# Altium integrated library Microchip Power Mgt CPU-System Supervisors.IntLib: 389 symbols (part 7 of 9)
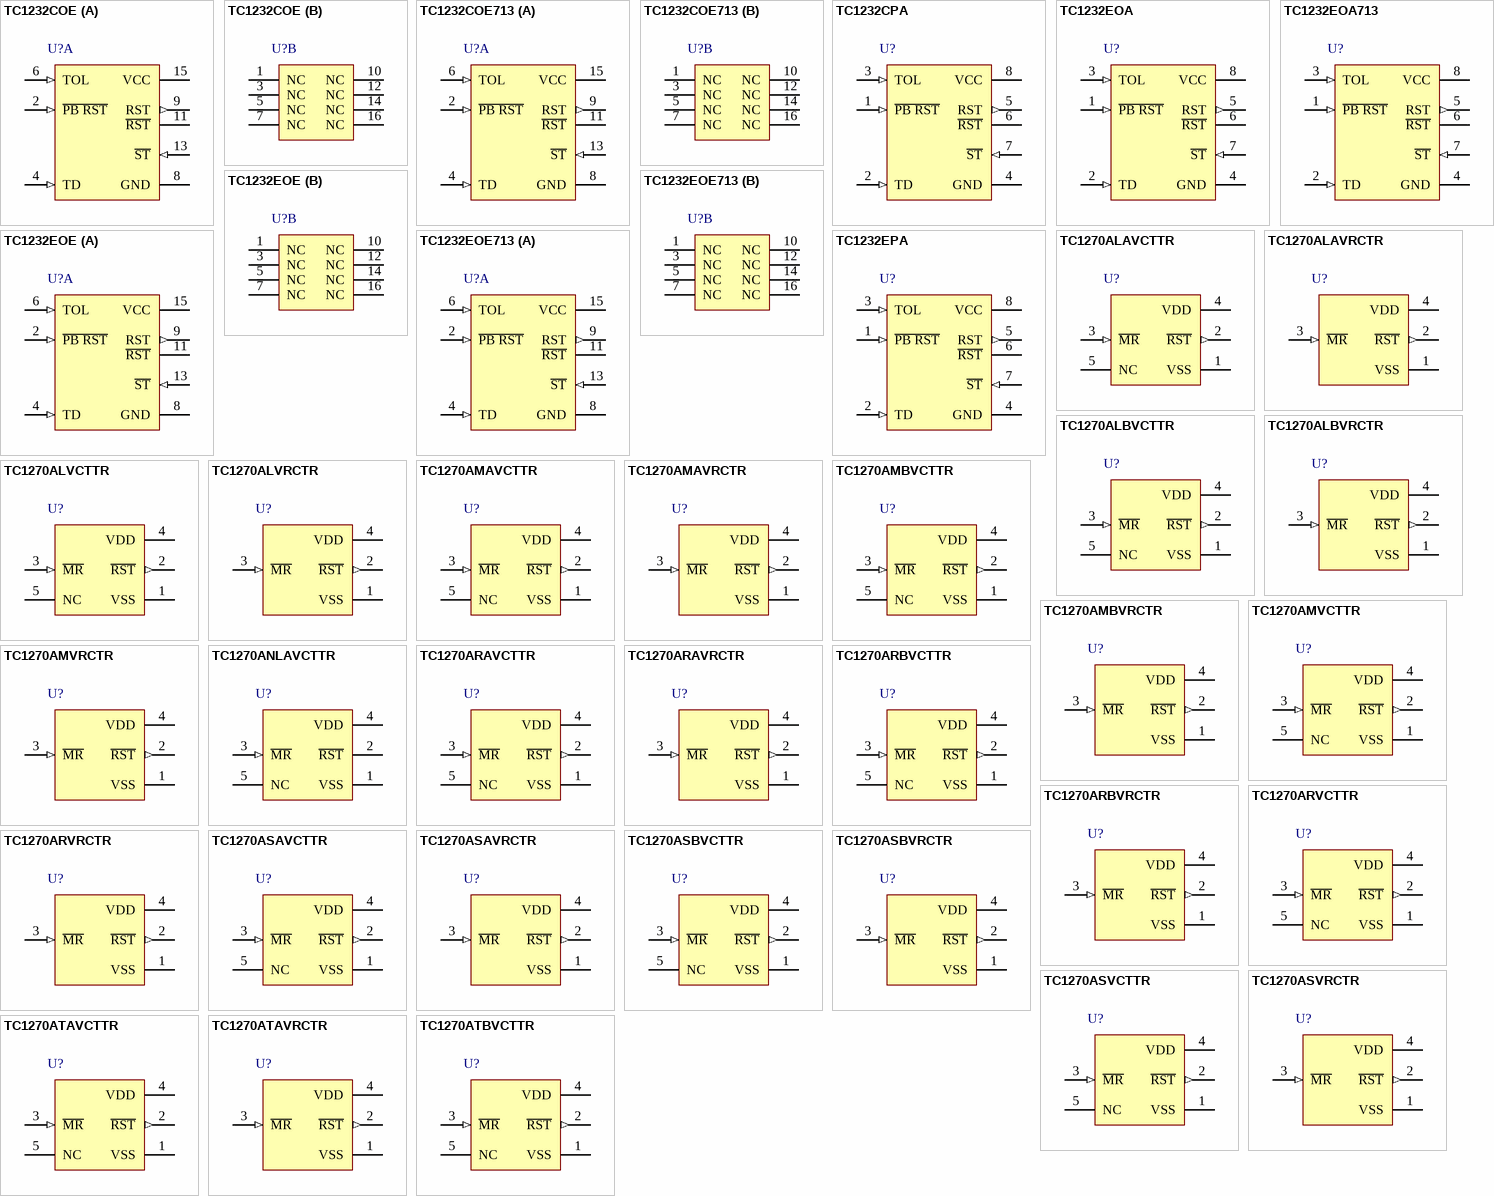
[diagram p15: symbols TC1232COE to TC1270ATBVCTTR]

## TC1270AMAVRCTR
designator U?
Voltage Supervisor with Manual Reset Input, 4-Pin SOT-143, VTRIP:4.25V (min.) / 4.38V (typ.) / 4.50V (max.), Tape and Reel; Published: 29-Jan-2009; DatasheetVersion: revB, Jun-2007; PackageVersion: revAW, Oct-2008; PackageReference: SOT-143-RC4; Publisher: Altium Limited; PackageDescription: 4-Lead Plastic Small Outline Transistor (RC) [SOT-143]; Code_IPC: SOT143; ComponentLink1Description: Manufacturer Link; ComponentLink1URL: http://www.microchip.com; ComponentLink2Description: Datasheet; ComponentLink2URL: http://ww1.microchip.com/downloads/en/DeviceDoc/22035b.pdf; ComponentLink3Description: Packaging Specification; ComponentLink3URL: http://ww1.microchip.com/downloads/en/PackagingSpec/00049AW.pdf
footprint SOT-143-RC4_N (SOT143, 4-Leads, Body 2.9x1.3mm, Pitch 1.9mm, Lead Span 2.4mm, IPC Medium Density)
footprint SOT-143-RC4_L (SOT143, 4-Leads, Body 2.9x1.3mm, Pitch 1.9mm, Lead Span 2.4mm, IPC High Density)
footprint SOT-143-RC4_M (SOT143, 4-Leads, Body 2.9x1.3mm, Pitch 1.9mm, Lead Span 2.4mm, IPC Low Density)
pins: 1 VSS (power), 2 ~{RST} (out), 3 ~{MR} (in), 4 VDD (power)

## TC1270AMBVCTTR
designator U?
Voltage Supervisor with Manual Reset Input, 5-Pin SOT-23, VTRIP:4.25V (min.) / 4.38V (typ.) / 4.50V (max.), Tape and Reel; Published: 29-Jan-2009; DatasheetVersion: revB, Jun-2007; PackageVersion: revAW, Oct-2008; PackageReference: SOT-23-CT5; Publisher: Altium Limited; PackageDescription: 5-Lead Plastic Small Outline Transistor (CT) [SOT-23]; Code_IPC: SOT23-5; ComponentLink1Description: Manufacturer Link; ComponentLink1URL: http://www.microchip.com; ComponentLink2Description: Datasheet; ComponentLink2URL: http://ww1.microchip.com/downloads/en/DeviceDoc/22035b.pdf; ComponentLink3Description: Packaging Specification; ComponentLink3URL: http://ww1.microchip.com/downloads/en/PackagingSpec/00049AW.pdf
footprint SOT-23-CT5_N (SOT23, 5-Leads, Body 2.9x1.6mm, Pitch 0.95mm, Lead Span 2.7mm, IPC Medium Density)
footprint SOT-23-CT5_L (SOT23, 5-Leads, Body 2.9x1.6mm, Pitch 0.95mm, Lead Span 2.7mm, IPC High Density)
footprint SOT-23-CT5_M (SOT23, 5-Leads, Body 2.9x1.6mm, Pitch 0.95mm, Lead Span 2.7mm, IPC Low Density)
pins: 1 VSS (power), 2 ~{RST} (out), 3 ~{MR} (in), 4 VDD (power), 5 NC

## TC1270AMBVRCTR
designator U?
Voltage Supervisor with Manual Reset Input, 4-Pin SOT-143, VTRIP:4.25V (min.) / 4.38V (typ.) / 4.50V (max.), Tape and Reel; Published: 29-Jan-2009; DatasheetVersion: revB, Jun-2007; PackageVersion: revAW, Oct-2008; PackageReference: SOT-143-RC4; Publisher: Altium Limited; PackageDescription: 4-Lead Plastic Small Outline Transistor (RC) [SOT-143]; Code_IPC: SOT143; ComponentLink1Description: Manufacturer Link; ComponentLink1URL: http://www.microchip.com; ComponentLink2Description: Datasheet; ComponentLink2URL: http://ww1.microchip.com/downloads/en/DeviceDoc/22035b.pdf; ComponentLink3Description: Packaging Specification; ComponentLink3URL: http://ww1.microchip.com/downloads/en/PackagingSpec/00049AW.pdf
footprint SOT-143-RC4_N (SOT143, 4-Leads, Body 2.9x1.3mm, Pitch 1.9mm, Lead Span 2.4mm, IPC Medium Density)
footprint SOT-143-RC4_L (SOT143, 4-Leads, Body 2.9x1.3mm, Pitch 1.9mm, Lead Span 2.4mm, IPC High Density)
footprint SOT-143-RC4_M (SOT143, 4-Leads, Body 2.9x1.3mm, Pitch 1.9mm, Lead Span 2.4mm, IPC Low Density)
pins: 1 VSS (power), 2 ~{RST} (out), 3 ~{MR} (in), 4 VDD (power)

## TC1270AMVCTTR
designator U?
Voltage Supervisor with Manual Reset Input, 5-Pin SOT-23, VTRIP:4.25V (min.) / 4.38V (typ.) / 4.50V (max.), Tape and Reel; Published: 29-Jan-2009; DatasheetVersion: revB, Jun-2007; PackageVersion: revAW, Oct-2008; PackageReference: SOT-23-CT5; Publisher: Altium Limited; PackageDescription: 5-Lead Plastic Small Outline Transistor (CT) [SOT-23]; Code_IPC: SOT23-5; ComponentLink1Description: Manufacturer Link; ComponentLink1URL: http://www.microchip.com; ComponentLink2Description: Datasheet; ComponentLink2URL: http://ww1.microchip.com/downloads/en/DeviceDoc/22035b.pdf; ComponentLink3Description: Packaging Specification; ComponentLink3URL: http://ww1.microchip.com/downloads/en/PackagingSpec/00049AW.pdf
footprint SOT-23-CT5_N (SOT23, 5-Leads, Body 2.9x1.6mm, Pitch 0.95mm, Lead Span 2.7mm, IPC Medium Density)
footprint SOT-23-CT5_L (SOT23, 5-Leads, Body 2.9x1.6mm, Pitch 0.95mm, Lead Span 2.7mm, IPC High Density)
footprint SOT-23-CT5_M (SOT23, 5-Leads, Body 2.9x1.6mm, Pitch 0.95mm, Lead Span 2.7mm, IPC Low Density)
pins: 1 VSS (power), 2 ~{RST} (out), 3 ~{MR} (in), 4 VDD (power), 5 NC

## TC1270AMVRCTR
designator U?
Voltage Supervisor with Manual Reset Input, 4-Pin SOT-143, VTRIP:4.25V (min.) / 4.38V (typ.) / 4.50V (max.), Tape and Reel; Published: 29-Jan-2009; DatasheetVersion: revB, Jun-2007; PackageVersion: revAW, Oct-2008; PackageReference: SOT-143-RC4; Publisher: Altium Limited; PackageDescription: 4-Lead Plastic Small Outline Transistor (RC) [SOT-143]; Code_IPC: SOT143; ComponentLink1Description: Manufacturer Link; ComponentLink1URL: http://www.microchip.com; ComponentLink2Description: Datasheet; ComponentLink2URL: http://ww1.microchip.com/downloads/en/DeviceDoc/22035b.pdf; ComponentLink3Description: Packaging Specification; ComponentLink3URL: http://ww1.microchip.com/downloads/en/PackagingSpec/00049AW.pdf
footprint SOT-143-RC4_N (SOT143, 4-Leads, Body 2.9x1.3mm, Pitch 1.9mm, Lead Span 2.4mm, IPC Medium Density)
footprint SOT-143-RC4_L (SOT143, 4-Leads, Body 2.9x1.3mm, Pitch 1.9mm, Lead Span 2.4mm, IPC High Density)
footprint SOT-143-RC4_M (SOT143, 4-Leads, Body 2.9x1.3mm, Pitch 1.9mm, Lead Span 2.4mm, IPC Low Density)
pins: 1 VSS (power), 2 ~{RST} (out), 3 ~{MR} (in), 4 VDD (power)

## TC1270ANLAVCTTR
designator U?
Voltage Supervisor with Manual Reset Input, 5-Pin SOT-23, VTRIP:4.50V (min.) / 4.63V (typ.) / 4.75V (max.), Tape and Reel; Published: 29-Jan-2009; DatasheetVersion: revB, Jun-2007; PackageVersion: revAW, Oct-2008; PackageReference: SOT-23-CT5; Publisher: Altium Limited; PackageDescription: 5-Lead Plastic Small Outline Transistor (CT) [SOT-23]; Code_IPC: SOT23-5; ComponentLink1Description: Manufacturer Link; ComponentLink1URL: http://www.microchip.com; ComponentLink2Description: Datasheet; ComponentLink2URL: http://ww1.microchip.com/downloads/en/DeviceDoc/22035b.pdf; ComponentLink3Description: Packaging Specification; ComponentLink3URL: http://ww1.microchip.com/downloads/en/PackagingSpec/00049AW.pdf
footprint SOT-23-CT5_N (SOT23, 5-Leads, Body 2.9x1.6mm, Pitch 0.95mm, Lead Span 2.7mm, IPC Medium Density)
footprint SOT-23-CT5_L (SOT23, 5-Leads, Body 2.9x1.6mm, Pitch 0.95mm, Lead Span 2.7mm, IPC High Density)
footprint SOT-23-CT5_M (SOT23, 5-Leads, Body 2.9x1.6mm, Pitch 0.95mm, Lead Span 2.7mm, IPC Low Density)
pins: 1 VSS (power), 2 ~{RST} (oc), 3 ~{MR} (in), 4 VDD (power), 5 NC

## TC1270ARAVCTTR
designator U?
Voltage Supervisor with Manual Reset Input, 5-Pin SOT-23, VTRIP:2.55V (min.) / 2.63V (typ.) / 2.70V (max.), Tape and Reel; Published: 29-Jan-2009; DatasheetVersion: revB, Jun-2007; PackageVersion: revAW, Oct-2008; PackageReference: SOT-23-CT5; Publisher: Altium Limited; PackageDescription: 5-Lead Plastic Small Outline Transistor (CT) [SOT-23]; Code_IPC: SOT23-5; ComponentLink1Description: Manufacturer Link; ComponentLink1URL: http://www.microchip.com; ComponentLink2Description: Datasheet; ComponentLink2URL: http://ww1.microchip.com/downloads/en/DeviceDoc/22035b.pdf; ComponentLink3Description: Packaging Specification; ComponentLink3URL: http://ww1.microchip.com/downloads/en/PackagingSpec/00049AW.pdf
footprint SOT-23-CT5_N (SOT23, 5-Leads, Body 2.9x1.6mm, Pitch 0.95mm, Lead Span 2.7mm, IPC Medium Density)
footprint SOT-23-CT5_L (SOT23, 5-Leads, Body 2.9x1.6mm, Pitch 0.95mm, Lead Span 2.7mm, IPC High Density)
footprint SOT-23-CT5_M (SOT23, 5-Leads, Body 2.9x1.6mm, Pitch 0.95mm, Lead Span 2.7mm, IPC Low Density)
pins: 1 VSS (power), 2 ~{RST} (out), 3 ~{MR} (in), 4 VDD (power), 5 NC

## TC1270ARAVRCTR
designator U?
Voltage Supervisor with Manual Reset Input, 4-Pin SOT-143, VTRIP:2.55V (min.) / 2.63V (typ.) / 2.70V (max.), Tape and Reel; Published: 29-Jan-2009; DatasheetVersion: revB, Jun-2007; PackageVersion: revAW, Oct-2008; PackageReference: SOT-143-RC4; Publisher: Altium Limited; PackageDescription: 4-Lead Plastic Small Outline Transistor (RC) [SOT-143]; Code_IPC: SOT143; ComponentLink1Description: Manufacturer Link; ComponentLink1URL: http://www.microchip.com; ComponentLink2Description: Datasheet; ComponentLink2URL: http://ww1.microchip.com/downloads/en/DeviceDoc/22035b.pdf; ComponentLink3Description: Packaging Specification; ComponentLink3URL: http://ww1.microchip.com/downloads/en/PackagingSpec/00049AW.pdf
footprint SOT-143-RC4_N (SOT143, 4-Leads, Body 2.9x1.3mm, Pitch 1.9mm, Lead Span 2.4mm, IPC Medium Density)
footprint SOT-143-RC4_L (SOT143, 4-Leads, Body 2.9x1.3mm, Pitch 1.9mm, Lead Span 2.4mm, IPC High Density)
footprint SOT-143-RC4_M (SOT143, 4-Leads, Body 2.9x1.3mm, Pitch 1.9mm, Lead Span 2.4mm, IPC Low Density)
pins: 1 VSS (power), 2 ~{RST} (out), 3 ~{MR} (in), 4 VDD (power)

## TC1270ARBVCTTR
designator U?
Voltage Supervisor with Manual Reset Input, 5-Pin SOT-23, VTRIP:2.55V (min.) / 2.63V (typ.) / 2.70V (max.), Tape and Reel; Published: 29-Jan-2009; DatasheetVersion: revB, Jun-2007; PackageVersion: revAW, Oct-2008; PackageReference: SOT-23-CT5; Publisher: Altium Limited; PackageDescription: 5-Lead Plastic Small Outline Transistor (CT) [SOT-23]; Code_IPC: SOT23-5; ComponentLink1Description: Manufacturer Link; ComponentLink1URL: http://www.microchip.com; ComponentLink2Description: Datasheet; ComponentLink2URL: http://ww1.microchip.com/downloads/en/DeviceDoc/22035b.pdf; ComponentLink3Description: Packaging Specification; ComponentLink3URL: http://ww1.microchip.com/downloads/en/PackagingSpec/00049AW.pdf
footprint SOT-23-CT5_N (SOT23, 5-Leads, Body 2.9x1.6mm, Pitch 0.95mm, Lead Span 2.7mm, IPC Medium Density)
footprint SOT-23-CT5_L (SOT23, 5-Leads, Body 2.9x1.6mm, Pitch 0.95mm, Lead Span 2.7mm, IPC High Density)
footprint SOT-23-CT5_M (SOT23, 5-Leads, Body 2.9x1.6mm, Pitch 0.95mm, Lead Span 2.7mm, IPC Low Density)
pins: 1 VSS (power), 2 ~{RST} (out), 3 ~{MR} (in), 4 VDD (power), 5 NC

## TC1270ARBVRCTR
designator U?
Voltage Supervisor with Manual Reset Input, 4-Pin SOT-143, VTRIP:2.55V (min.) / 2.63V (typ.) / 2.70V (max.), Tape and Reel; Published: 29-Jan-2009; DatasheetVersion: revB, Jun-2007; PackageVersion: revAW, Oct-2008; PackageReference: SOT-143-RC4; Publisher: Altium Limited; PackageDescription: 4-Lead Plastic Small Outline Transistor (RC) [SOT-143]; Code_IPC: SOT143; ComponentLink1Description: Manufacturer Link; ComponentLink1URL: http://www.microchip.com; ComponentLink2Description: Datasheet; ComponentLink2URL: http://ww1.microchip.com/downloads/en/DeviceDoc/22035b.pdf; ComponentLink3Description: Packaging Specification; ComponentLink3URL: http://ww1.microchip.com/downloads/en/PackagingSpec/00049AW.pdf
footprint SOT-143-RC4_N (SOT143, 4-Leads, Body 2.9x1.3mm, Pitch 1.9mm, Lead Span 2.4mm, IPC Medium Density)
footprint SOT-143-RC4_L (SOT143, 4-Leads, Body 2.9x1.3mm, Pitch 1.9mm, Lead Span 2.4mm, IPC High Density)
footprint SOT-143-RC4_M (SOT143, 4-Leads, Body 2.9x1.3mm, Pitch 1.9mm, Lead Span 2.4mm, IPC Low Density)
pins: 1 VSS (power), 2 ~{RST} (out), 3 ~{MR} (in), 4 VDD (power)

## TC1270ARVCTTR
designator U?
Voltage Supervisor with Manual Reset Input, 5-Pin SOT-23, VTRIP:2.55V (min.) / 2.63V (typ.) / 2.70V (max.), Tape and Reel; Published: 29-Jan-2009; DatasheetVersion: revB, Jun-2007; PackageVersion: revAW, Oct-2008; PackageReference: SOT-23-CT5; Publisher: Altium Limited; PackageDescription: 5-Lead Plastic Small Outline Transistor (CT) [SOT-23]; Code_IPC: SOT23-5; ComponentLink1Description: Manufacturer Link; ComponentLink1URL: http://www.microchip.com; ComponentLink2Description: Datasheet; ComponentLink2URL: http://ww1.microchip.com/downloads/en/DeviceDoc/22035b.pdf; ComponentLink3Description: Packaging Specification; ComponentLink3URL: http://ww1.microchip.com/downloads/en/PackagingSpec/00049AW.pdf
footprint SOT-23-CT5_N (SOT23, 5-Leads, Body 2.9x1.6mm, Pitch 0.95mm, Lead Span 2.7mm, IPC Medium Density)
footprint SOT-23-CT5_L (SOT23, 5-Leads, Body 2.9x1.6mm, Pitch 0.95mm, Lead Span 2.7mm, IPC High Density)
footprint SOT-23-CT5_M (SOT23, 5-Leads, Body 2.9x1.6mm, Pitch 0.95mm, Lead Span 2.7mm, IPC Low Density)
pins: 1 VSS (power), 2 ~{RST} (out), 3 ~{MR} (in), 4 VDD (power), 5 NC

## TC1270ARVRCTR
designator U?
Voltage Supervisor with Manual Reset Input, 4-Pin SOT-143, VTRIP:2.55V (min.) / 2.63V (typ.) / 2.70V (max.), Tape and Reel; Published: 29-Jan-2009; DatasheetVersion: revB, Jun-2007; PackageVersion: revAW, Oct-2008; PackageReference: SOT-143-RC4; Publisher: Altium Limited; PackageDescription: 4-Lead Plastic Small Outline Transistor (RC) [SOT-143]; Code_IPC: SOT143; ComponentLink1Description: Manufacturer Link; ComponentLink1URL: http://www.microchip.com; ComponentLink2Description: Datasheet; ComponentLink2URL: http://ww1.microchip.com/downloads/en/DeviceDoc/22035b.pdf; ComponentLink3Description: Packaging Specification; ComponentLink3URL: http://ww1.microchip.com/downloads/en/PackagingSpec/00049AW.pdf
footprint SOT-143-RC4_N (SOT143, 4-Leads, Body 2.9x1.3mm, Pitch 1.9mm, Lead Span 2.4mm, IPC Medium Density)
footprint SOT-143-RC4_L (SOT143, 4-Leads, Body 2.9x1.3mm, Pitch 1.9mm, Lead Span 2.4mm, IPC High Density)
footprint SOT-143-RC4_M (SOT143, 4-Leads, Body 2.9x1.3mm, Pitch 1.9mm, Lead Span 2.4mm, IPC Low Density)
pins: 1 VSS (power), 2 ~{RST} (out), 3 ~{MR} (in), 4 VDD (power)

## TC1270ASAVCTTR
designator U?
Voltage Supervisor with Manual Reset Input, 5-Pin SOT-23, VTRIP:2.85V (min.) / 2.93V (typ.) / 3.00V (max.), Tape and Reel; Published: 29-Jan-2009; DatasheetVersion: revB, Jun-2007; PackageVersion: revAW, Oct-2008; PackageReference: SOT-23-CT5; Publisher: Altium Limited; PackageDescription: 5-Lead Plastic Small Outline Transistor (CT) [SOT-23]; Code_IPC: SOT23-5; ComponentLink1Description: Manufacturer Link; ComponentLink1URL: http://www.microchip.com; ComponentLink2Description: Datasheet; ComponentLink2URL: http://ww1.microchip.com/downloads/en/DeviceDoc/22035b.pdf; ComponentLink3Description: Packaging Specification; ComponentLink3URL: http://ww1.microchip.com/downloads/en/PackagingSpec/00049AW.pdf
footprint SOT-23-CT5_N (SOT23, 5-Leads, Body 2.9x1.6mm, Pitch 0.95mm, Lead Span 2.7mm, IPC Medium Density)
footprint SOT-23-CT5_L (SOT23, 5-Leads, Body 2.9x1.6mm, Pitch 0.95mm, Lead Span 2.7mm, IPC High Density)
footprint SOT-23-CT5_M (SOT23, 5-Leads, Body 2.9x1.6mm, Pitch 0.95mm, Lead Span 2.7mm, IPC Low Density)
pins: 1 VSS (power), 2 ~{RST} (out), 3 ~{MR} (in), 4 VDD (power), 5 NC

## TC1270ASAVRCTR
designator U?
Voltage Supervisor with Manual Reset Input, 4-Pin SOT-143, VTRIP:2.85V (min.) / 2.93V (typ.) / 3.00V (max.), Tape and Reel; Published: 29-Jan-2009; DatasheetVersion: revB, Jun-2007; PackageVersion: revAW, Oct-2008; PackageReference: SOT-143-RC4; Publisher: Altium Limited; PackageDescription: 4-Lead Plastic Small Outline Transistor (RC) [SOT-143]; Code_IPC: SOT143; ComponentLink1Description: Manufacturer Link; ComponentLink1URL: http://www.microchip.com; ComponentLink2Description: Datasheet; ComponentLink2URL: http://ww1.microchip.com/downloads/en/DeviceDoc/22035b.pdf; ComponentLink3Description: Packaging Specification; ComponentLink3URL: http://ww1.microchip.com/downloads/en/PackagingSpec/00049AW.pdf
footprint SOT-143-RC4_N (SOT143, 4-Leads, Body 2.9x1.3mm, Pitch 1.9mm, Lead Span 2.4mm, IPC Medium Density)
footprint SOT-143-RC4_L (SOT143, 4-Leads, Body 2.9x1.3mm, Pitch 1.9mm, Lead Span 2.4mm, IPC High Density)
footprint SOT-143-RC4_M (SOT143, 4-Leads, Body 2.9x1.3mm, Pitch 1.9mm, Lead Span 2.4mm, IPC Low Density)
pins: 1 VSS (power), 2 ~{RST} (out), 3 ~{MR} (in), 4 VDD (power)

## TC1270ASBVCTTR
designator U?
Voltage Supervisor with Manual Reset Input, 5-Pin SOT-23, VTRIP:2.85V (min.) / 2.93V (typ.) / 3.00V (max.), Tape and Reel; Published: 29-Jan-2009; DatasheetVersion: revB, Jun-2007; PackageVersion: revAW, Oct-2008; PackageReference: SOT-23-CT5; Publisher: Altium Limited; PackageDescription: 5-Lead Plastic Small Outline Transistor (CT) [SOT-23]; Code_IPC: SOT23-5; ComponentLink1Description: Manufacturer Link; ComponentLink1URL: http://www.microchip.com; ComponentLink2Description: Datasheet; ComponentLink2URL: http://ww1.microchip.com/downloads/en/DeviceDoc/22035b.pdf; ComponentLink3Description: Packaging Specification; ComponentLink3URL: http://ww1.microchip.com/downloads/en/PackagingSpec/00049AW.pdf
footprint SOT-23-CT5_N (SOT23, 5-Leads, Body 2.9x1.6mm, Pitch 0.95mm, Lead Span 2.7mm, IPC Medium Density)
footprint SOT-23-CT5_L (SOT23, 5-Leads, Body 2.9x1.6mm, Pitch 0.95mm, Lead Span 2.7mm, IPC High Density)
footprint SOT-23-CT5_M (SOT23, 5-Leads, Body 2.9x1.6mm, Pitch 0.95mm, Lead Span 2.7mm, IPC Low Density)
pins: 1 VSS (power), 2 ~{RST} (out), 3 ~{MR} (in), 4 VDD (power), 5 NC

## TC1270ASBVRCTR
designator U?
Voltage Supervisor with Manual Reset Input, 4-Pin SOT-143, VTRIP:2.85V (min.) / 2.93V (typ.) / 3.00V (max.), Tape and Reel; Published: 29-Jan-2009; DatasheetVersion: revB, Jun-2007; PackageVersion: revAW, Oct-2008; PackageReference: SOT-143-RC4; Publisher: Altium Limited; PackageDescription: 4-Lead Plastic Small Outline Transistor (RC) [SOT-143]; Code_IPC: SOT143; ComponentLink1Description: Manufacturer Link; ComponentLink1URL: http://www.microchip.com; ComponentLink2Description: Datasheet; ComponentLink2URL: http://ww1.microchip.com/downloads/en/DeviceDoc/22035b.pdf; ComponentLink3Description: Packaging Specification; ComponentLink3URL: http://ww1.microchip.com/downloads/en/PackagingSpec/00049AW.pdf
footprint SOT-143-RC4_N (SOT143, 4-Leads, Body 2.9x1.3mm, Pitch 1.9mm, Lead Span 2.4mm, IPC Medium Density)
footprint SOT-143-RC4_L (SOT143, 4-Leads, Body 2.9x1.3mm, Pitch 1.9mm, Lead Span 2.4mm, IPC High Density)
footprint SOT-143-RC4_M (SOT143, 4-Leads, Body 2.9x1.3mm, Pitch 1.9mm, Lead Span 2.4mm, IPC Low Density)
pins: 1 VSS (power), 2 ~{RST} (out), 3 ~{MR} (in), 4 VDD (power)

## TC1270ASVCTTR
designator U?
Voltage Supervisor with Manual Reset Input, 5-Pin SOT-23, VTRIP:2.85V (min.) / 2.93V (typ.) / 3.00V (max.), Tape and Reel; Published: 29-Jan-2009; DatasheetVersion: revB, Jun-2007; PackageVersion: revAW, Oct-2008; PackageReference: SOT-23-CT5; Publisher: Altium Limited; PackageDescription: 5-Lead Plastic Small Outline Transistor (CT) [SOT-23]; Code_IPC: SOT23-5; ComponentLink1Description: Manufacturer Link; ComponentLink1URL: http://www.microchip.com; ComponentLink2Description: Datasheet; ComponentLink2URL: http://ww1.microchip.com/downloads/en/DeviceDoc/22035b.pdf; ComponentLink3Description: Packaging Specification; ComponentLink3URL: http://ww1.microchip.com/downloads/en/PackagingSpec/00049AW.pdf
footprint SOT-23-CT5_N (SOT23, 5-Leads, Body 2.9x1.6mm, Pitch 0.95mm, Lead Span 2.7mm, IPC Medium Density)
footprint SOT-23-CT5_L (SOT23, 5-Leads, Body 2.9x1.6mm, Pitch 0.95mm, Lead Span 2.7mm, IPC High Density)
footprint SOT-23-CT5_M (SOT23, 5-Leads, Body 2.9x1.6mm, Pitch 0.95mm, Lead Span 2.7mm, IPC Low Density)
pins: 1 VSS (power), 2 ~{RST} (out), 3 ~{MR} (in), 4 VDD (power), 5 NC

## TC1270ASVRCTR
designator U?
Voltage Supervisor with Manual Reset Input, 4-Pin SOT-143, VTRIP:2.85V (min.) / 2.93V (typ.) / 3.00V (max.), Tape and Reel; Published: 29-Jan-2009; DatasheetVersion: revB, Jun-2007; PackageVersion: revAW, Oct-2008; PackageReference: SOT-143-RC4; Publisher: Altium Limited; PackageDescription: 4-Lead Plastic Small Outline Transistor (RC) [SOT-143]; Code_IPC: SOT143; ComponentLink1Description: Manufacturer Link; ComponentLink1URL: http://www.microchip.com; ComponentLink2Description: Datasheet; ComponentLink2URL: http://ww1.microchip.com/downloads/en/DeviceDoc/22035b.pdf; ComponentLink3Description: Packaging Specification; ComponentLink3URL: http://ww1.microchip.com/downloads/en/PackagingSpec/00049AW.pdf
footprint SOT-143-RC4_N (SOT143, 4-Leads, Body 2.9x1.3mm, Pitch 1.9mm, Lead Span 2.4mm, IPC Medium Density)
footprint SOT-143-RC4_L (SOT143, 4-Leads, Body 2.9x1.3mm, Pitch 1.9mm, Lead Span 2.4mm, IPC High Density)
footprint SOT-143-RC4_M (SOT143, 4-Leads, Body 2.9x1.3mm, Pitch 1.9mm, Lead Span 2.4mm, IPC Low Density)
pins: 1 VSS (power), 2 ~{RST} (out), 3 ~{MR} (in), 4 VDD (power)

## TC1270ATAVCTTR
designator U?
Voltage Supervisor with Manual Reset Input, 5-Pin SOT-23, VTRIP:3.00V (min.) / 3.08V (typ.) / 3.15V (max.), Tape and Reel; Published: 29-Jan-2009; DatasheetVersion: revB, Jun-2007; PackageVersion: revAW, Oct-2008; PackageReference: SOT-23-CT5; Publisher: Altium Limited; PackageDescription: 5-Lead Plastic Small Outline Transistor (CT) [SOT-23]; Code_IPC: SOT23-5; ComponentLink1Description: Manufacturer Link; ComponentLink1URL: http://www.microchip.com; ComponentLink2Description: Datasheet; ComponentLink2URL: http://ww1.microchip.com/downloads/en/DeviceDoc/22035b.pdf; ComponentLink3Description: Packaging Specification; ComponentLink3URL: http://ww1.microchip.com/downloads/en/PackagingSpec/00049AW.pdf
footprint SOT-23-CT5_N (SOT23, 5-Leads, Body 2.9x1.6mm, Pitch 0.95mm, Lead Span 2.7mm, IPC Medium Density)
footprint SOT-23-CT5_L (SOT23, 5-Leads, Body 2.9x1.6mm, Pitch 0.95mm, Lead Span 2.7mm, IPC High Density)
footprint SOT-23-CT5_M (SOT23, 5-Leads, Body 2.9x1.6mm, Pitch 0.95mm, Lead Span 2.7mm, IPC Low Density)
pins: 1 VSS (power), 2 ~{RST} (out), 3 ~{MR} (in), 4 VDD (power), 5 NC

## TC1270ATAVRCTR
designator U?
Voltage Supervisor with Manual Reset Input, 4-Pin SOT-143, VTRIP:3.00V (min.) / 3.08V (typ.) / 3.15V (max.), Tape and Reel; Published: 29-Jan-2009; DatasheetVersion: revB, Jun-2007; PackageVersion: revAW, Oct-2008; PackageReference: SOT-143-RC4; Publisher: Altium Limited; PackageDescription: 4-Lead Plastic Small Outline Transistor (RC) [SOT-143]; Code_IPC: SOT143; ComponentLink1Description: Manufacturer Link; ComponentLink1URL: http://www.microchip.com; ComponentLink2Description: Datasheet; ComponentLink2URL: http://ww1.microchip.com/downloads/en/DeviceDoc/22035b.pdf; ComponentLink3Description: Packaging Specification; ComponentLink3URL: http://ww1.microchip.com/downloads/en/PackagingSpec/00049AW.pdf
footprint SOT-143-RC4_N (SOT143, 4-Leads, Body 2.9x1.3mm, Pitch 1.9mm, Lead Span 2.4mm, IPC Medium Density)
footprint SOT-143-RC4_L (SOT143, 4-Leads, Body 2.9x1.3mm, Pitch 1.9mm, Lead Span 2.4mm, IPC High Density)
footprint SOT-143-RC4_M (SOT143, 4-Leads, Body 2.9x1.3mm, Pitch 1.9mm, Lead Span 2.4mm, IPC Low Density)
pins: 1 VSS (power), 2 ~{RST} (out), 3 ~{MR} (in), 4 VDD (power)

## TC1270ATBVCTTR
designator U?
Voltage Supervisor with Manual Reset Input, 5-Pin SOT-23, VTRIP:3.00V (min.) / 3.08V (typ.) / 3.15V (max.), Tape and Reel; Published: 29-Jan-2009; DatasheetVersion: revB, Jun-2007; PackageVersion: revAW, Oct-2008; PackageReference: SOT-23-CT5; Publisher: Altium Limited; PackageDescription: 5-Lead Plastic Small Outline Transistor (CT) [SOT-23]; Code_IPC: SOT23-5; ComponentLink1Description: Manufacturer Link; ComponentLink1URL: http://www.microchip.com; ComponentLink2Description: Datasheet; ComponentLink2URL: http://ww1.microchip.com/downloads/en/DeviceDoc/22035b.pdf; ComponentLink3Description: Packaging Specification; ComponentLink3URL: http://ww1.microchip.com/downloads/en/PackagingSpec/00049AW.pdf
footprint SOT-23-CT5_N (SOT23, 5-Leads, Body 2.9x1.6mm, Pitch 0.95mm, Lead Span 2.7mm, IPC Medium Density)
footprint SOT-23-CT5_L (SOT23, 5-Leads, Body 2.9x1.6mm, Pitch 0.95mm, Lead Span 2.7mm, IPC High Density)
footprint SOT-23-CT5_M (SOT23, 5-Leads, Body 2.9x1.6mm, Pitch 0.95mm, Lead Span 2.7mm, IPC Low Density)
pins: 1 VSS (power), 2 ~{RST} (out), 3 ~{MR} (in), 4 VDD (power), 5 NC

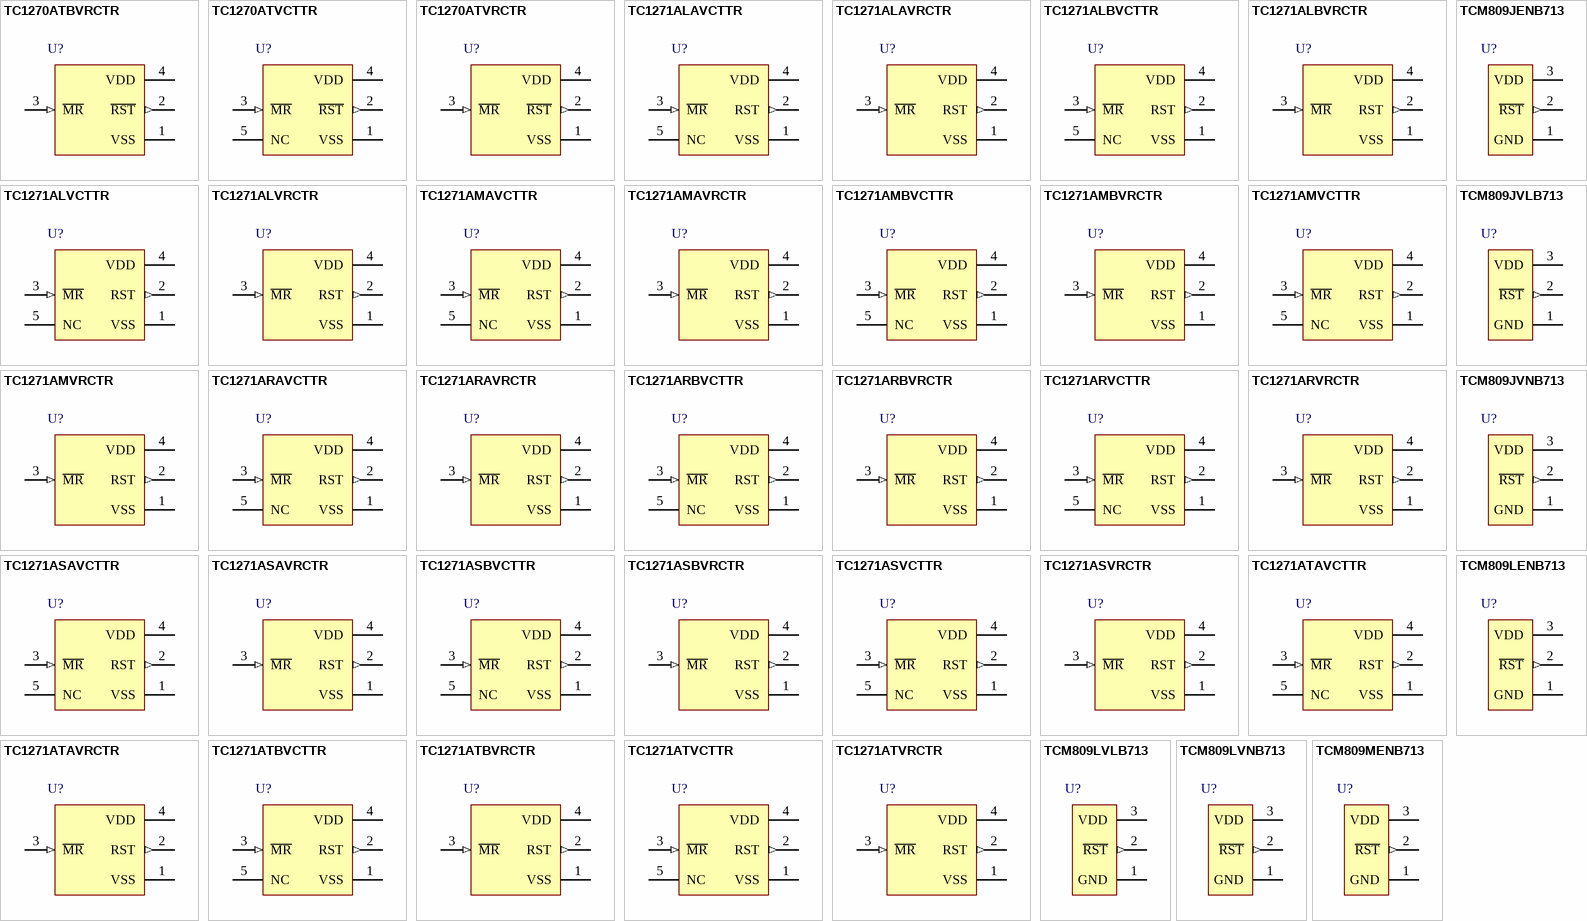
[diagram p8: symbols TC1270ATBVRCTR to TCM809MENB713]

## TC1270ATBVRCTR
designator U?
Voltage Supervisor with Manual Reset Input, 4-Pin SOT-143, VTRIP:3.00V (min.) / 3.08V (typ.) / 3.15V (max.), Tape and Reel; Published: 29-Jan-2009; DatasheetVersion: revB, Jun-2007; PackageVersion: revAW, Oct-2008; PackageReference: SOT-143-RC4; Publisher: Altium Limited; PackageDescription: 4-Lead Plastic Small Outline Transistor (RC) [SOT-143]; Code_IPC: SOT143; ComponentLink1Description: Manufacturer Link; ComponentLink1URL: http://www.microchip.com; ComponentLink2Description: Datasheet; ComponentLink2URL: http://ww1.microchip.com/downloads/en/DeviceDoc/22035b.pdf; ComponentLink3Description: Packaging Specification; ComponentLink3URL: http://ww1.microchip.com/downloads/en/PackagingSpec/00049AW.pdf
footprint SOT-143-RC4_N (SOT143, 4-Leads, Body 2.9x1.3mm, Pitch 1.9mm, Lead Span 2.4mm, IPC Medium Density)
footprint SOT-143-RC4_L (SOT143, 4-Leads, Body 2.9x1.3mm, Pitch 1.9mm, Lead Span 2.4mm, IPC High Density)
footprint SOT-143-RC4_M (SOT143, 4-Leads, Body 2.9x1.3mm, Pitch 1.9mm, Lead Span 2.4mm, IPC Low Density)
pins: 1 VSS (power), 2 ~{RST} (out), 3 ~{MR} (in), 4 VDD (power)

## TC1270ATVCTTR
designator U?
Voltage Supervisor with Manual Reset Input, 5-Pin SOT-23, VTRIP:3.00V (min.) / 3.08V (typ.) / 3.15V (max.), Tape and Reel; Published: 29-Jan-2009; DatasheetVersion: revB, Jun-2007; PackageVersion: revAW, Oct-2008; PackageReference: SOT-23-CT5; Publisher: Altium Limited; PackageDescription: 5-Lead Plastic Small Outline Transistor (CT) [SOT-23]; Code_IPC: SOT23-5; ComponentLink1Description: Manufacturer Link; ComponentLink1URL: http://www.microchip.com; ComponentLink2Description: Datasheet; ComponentLink2URL: http://ww1.microchip.com/downloads/en/DeviceDoc/22035b.pdf; ComponentLink3Description: Packaging Specification; ComponentLink3URL: http://ww1.microchip.com/downloads/en/PackagingSpec/00049AW.pdf
footprint SOT-23-CT5_N (SOT23, 5-Leads, Body 2.9x1.6mm, Pitch 0.95mm, Lead Span 2.7mm, IPC Medium Density)
footprint SOT-23-CT5_L (SOT23, 5-Leads, Body 2.9x1.6mm, Pitch 0.95mm, Lead Span 2.7mm, IPC High Density)
footprint SOT-23-CT5_M (SOT23, 5-Leads, Body 2.9x1.6mm, Pitch 0.95mm, Lead Span 2.7mm, IPC Low Density)
pins: 1 VSS (power), 2 ~{RST} (out), 3 ~{MR} (in), 4 VDD (power), 5 NC

## TC1270ATVRCTR
designator U?
Voltage Supervisor with Manual Reset Input, 4-Pin SOT-143, VTRIP:3.00V (min.) / 3.08V (typ.) / 3.15V (max.), Tape and Reel; Published: 29-Jan-2009; DatasheetVersion: revB, Jun-2007; PackageVersion: revAW, Oct-2008; PackageReference: SOT-143-RC4; Publisher: Altium Limited; PackageDescription: 4-Lead Plastic Small Outline Transistor (RC) [SOT-143]; Code_IPC: SOT143; ComponentLink1Description: Manufacturer Link; ComponentLink1URL: http://www.microchip.com; ComponentLink2Description: Datasheet; ComponentLink2URL: http://ww1.microchip.com/downloads/en/DeviceDoc/22035b.pdf; ComponentLink3Description: Packaging Specification; ComponentLink3URL: http://ww1.microchip.com/downloads/en/PackagingSpec/00049AW.pdf
footprint SOT-143-RC4_N (SOT143, 4-Leads, Body 2.9x1.3mm, Pitch 1.9mm, Lead Span 2.4mm, IPC Medium Density)
footprint SOT-143-RC4_L (SOT143, 4-Leads, Body 2.9x1.3mm, Pitch 1.9mm, Lead Span 2.4mm, IPC High Density)
footprint SOT-143-RC4_M (SOT143, 4-Leads, Body 2.9x1.3mm, Pitch 1.9mm, Lead Span 2.4mm, IPC Low Density)
pins: 1 VSS (power), 2 ~{RST} (out), 3 ~{MR} (in), 4 VDD (power)

## TC1271ALAVCTTR
designator U?
Voltage Supervisor with Manual Reset Input, 5-Pin SOT-23, VTRIP:4.50V (min.) / 4.63V (typ.) / 4.75V (max.), Tape and Reel; Published: 29-Jan-2009; DatasheetVersion: revB, Jun-2007; PackageVersion: revAW, Oct-2008; PackageReference: SOT-23-CT5; Publisher: Altium Limited; PackageDescription: 5-Lead Plastic Small Outline Transistor (CT) [SOT-23]; Code_IPC: SOT23-5; ComponentLink1Description: Manufacturer Link; ComponentLink1URL: http://www.microchip.com; ComponentLink2Description: Datasheet; ComponentLink2URL: http://ww1.microchip.com/downloads/en/DeviceDoc/22035b.pdf; ComponentLink3Description: Packaging Specification; ComponentLink3URL: http://ww1.microchip.com/downloads/en/PackagingSpec/00049AW.pdf
footprint SOT-23-CT5_N (SOT23, 5-Leads, Body 2.9x1.6mm, Pitch 0.95mm, Lead Span 2.7mm, IPC Medium Density)
footprint SOT-23-CT5_L (SOT23, 5-Leads, Body 2.9x1.6mm, Pitch 0.95mm, Lead Span 2.7mm, IPC High Density)
footprint SOT-23-CT5_M (SOT23, 5-Leads, Body 2.9x1.6mm, Pitch 0.95mm, Lead Span 2.7mm, IPC Low Density)
pins: 1 VSS (power), 2 RST (out), 3 ~{MR} (in), 4 VDD (power), 5 NC

## TC1271ALAVRCTR
designator U?
Voltage Supervisor with Manual Reset Input, 4-Pin SOT-143, VTRIP:4.50V (min.) / 4.63V (typ.) / 4.75V (max.), Tape and Reel; Published: 29-Jan-2009; DatasheetVersion: revB, Jun-2007; PackageVersion: revAW, Oct-2008; PackageReference: SOT-143-RC4; Publisher: Altium Limited; PackageDescription: 4-Lead Plastic Small Outline Transistor (RC) [SOT-143]; Code_IPC: SOT143; ComponentLink1Description: Manufacturer Link; ComponentLink1URL: http://www.microchip.com; ComponentLink2Description: Datasheet; ComponentLink2URL: http://ww1.microchip.com/downloads/en/DeviceDoc/22035b.pdf; ComponentLink3Description: Packaging Specification; ComponentLink3URL: http://ww1.microchip.com/downloads/en/PackagingSpec/00049AW.pdf
footprint SOT-143-RC4_N (SOT143, 4-Leads, Body 2.9x1.3mm, Pitch 1.9mm, Lead Span 2.4mm, IPC Medium Density)
footprint SOT-143-RC4_L (SOT143, 4-Leads, Body 2.9x1.3mm, Pitch 1.9mm, Lead Span 2.4mm, IPC High Density)
footprint SOT-143-RC4_M (SOT143, 4-Leads, Body 2.9x1.3mm, Pitch 1.9mm, Lead Span 2.4mm, IPC Low Density)
pins: 1 VSS (power), 2 RST (out), 3 ~{MR} (in), 4 VDD (power)

## TC1271ALBVCTTR
designator U?
Voltage Supervisor with Manual Reset Input, 5-Pin SOT-23, VTRIP:4.50V (min.) / 4.63V (typ.) / 4.75V (max.), Tape and Reel; Published: 29-Jan-2009; DatasheetVersion: revB, Jun-2007; PackageVersion: revAW, Oct-2008; PackageReference: SOT-23-CT5; Publisher: Altium Limited; PackageDescription: 5-Lead Plastic Small Outline Transistor (CT) [SOT-23]; Code_IPC: SOT23-5; ComponentLink1Description: Manufacturer Link; ComponentLink1URL: http://www.microchip.com; ComponentLink2Description: Datasheet; ComponentLink2URL: http://ww1.microchip.com/downloads/en/DeviceDoc/22035b.pdf; ComponentLink3Description: Packaging Specification; ComponentLink3URL: http://ww1.microchip.com/downloads/en/PackagingSpec/00049AW.pdf
footprint SOT-23-CT5_N (SOT23, 5-Leads, Body 2.9x1.6mm, Pitch 0.95mm, Lead Span 2.7mm, IPC Medium Density)
footprint SOT-23-CT5_L (SOT23, 5-Leads, Body 2.9x1.6mm, Pitch 0.95mm, Lead Span 2.7mm, IPC High Density)
footprint SOT-23-CT5_M (SOT23, 5-Leads, Body 2.9x1.6mm, Pitch 0.95mm, Lead Span 2.7mm, IPC Low Density)
pins: 1 VSS (power), 2 RST (out), 3 ~{MR} (in), 4 VDD (power), 5 NC

## TC1271ALBVRCTR
designator U?
Voltage Supervisor with Manual Reset Input, 4-Pin SOT-143, VTRIP:4.50V (min.) / 4.63V (typ.) / 4.75V (max.), Tape and Reel; Published: 29-Jan-2009; DatasheetVersion: revB, Jun-2007; PackageVersion: revAW, Oct-2008; PackageReference: SOT-143-RC4; Publisher: Altium Limited; PackageDescription: 4-Lead Plastic Small Outline Transistor (RC) [SOT-143]; Code_IPC: SOT143; ComponentLink1Description: Manufacturer Link; ComponentLink1URL: http://www.microchip.com; ComponentLink2Description: Datasheet; ComponentLink2URL: http://ww1.microchip.com/downloads/en/DeviceDoc/22035b.pdf; ComponentLink3Description: Packaging Specification; ComponentLink3URL: http://ww1.microchip.com/downloads/en/PackagingSpec/00049AW.pdf
footprint SOT-143-RC4_N (SOT143, 4-Leads, Body 2.9x1.3mm, Pitch 1.9mm, Lead Span 2.4mm, IPC Medium Density)
footprint SOT-143-RC4_L (SOT143, 4-Leads, Body 2.9x1.3mm, Pitch 1.9mm, Lead Span 2.4mm, IPC High Density)
footprint SOT-143-RC4_M (SOT143, 4-Leads, Body 2.9x1.3mm, Pitch 1.9mm, Lead Span 2.4mm, IPC Low Density)
pins: 1 VSS (power), 2 RST (out), 3 ~{MR} (in), 4 VDD (power)

## TC1271ALVCTTR
designator U?
Voltage Supervisor with Manual Reset Input, 5-Pin SOT-23, VTRIP:4.50V (min.) / 4.63V (typ.) / 4.75V (max.), Tape and Reel; Published: 29-Jan-2009; DatasheetVersion: revB, Jun-2007; PackageVersion: revAW, Oct-2008; PackageReference: SOT-23-CT5; Publisher: Altium Limited; PackageDescription: 5-Lead Plastic Small Outline Transistor (CT) [SOT-23]; Code_IPC: SOT23-5; ComponentLink1Description: Manufacturer Link; ComponentLink1URL: http://www.microchip.com; ComponentLink2Description: Datasheet; ComponentLink2URL: http://ww1.microchip.com/downloads/en/DeviceDoc/22035b.pdf; ComponentLink3Description: Packaging Specification; ComponentLink3URL: http://ww1.microchip.com/downloads/en/PackagingSpec/00049AW.pdf
footprint SOT-23-CT5_N (SOT23, 5-Leads, Body 2.9x1.6mm, Pitch 0.95mm, Lead Span 2.7mm, IPC Medium Density)
footprint SOT-23-CT5_L (SOT23, 5-Leads, Body 2.9x1.6mm, Pitch 0.95mm, Lead Span 2.7mm, IPC High Density)
footprint SOT-23-CT5_M (SOT23, 5-Leads, Body 2.9x1.6mm, Pitch 0.95mm, Lead Span 2.7mm, IPC Low Density)
pins: 1 VSS (power), 2 RST (out), 3 ~{MR} (in), 4 VDD (power), 5 NC

## TC1271ALVRCTR
designator U?
Voltage Supervisor with Manual Reset Input, 4-Pin SOT-143, VTRIP:4.50V (min.) / 4.63V (typ.) / 4.75V (max.), Tape and Reel; Published: 29-Jan-2009; DatasheetVersion: revB, Jun-2007; PackageVersion: revAW, Oct-2008; PackageReference: SOT-143-RC4; Publisher: Altium Limited; PackageDescription: 4-Lead Plastic Small Outline Transistor (RC) [SOT-143]; Code_IPC: SOT143; ComponentLink1Description: Manufacturer Link; ComponentLink1URL: http://www.microchip.com; ComponentLink2Description: Datasheet; ComponentLink2URL: http://ww1.microchip.com/downloads/en/DeviceDoc/22035b.pdf; ComponentLink3Description: Packaging Specification; ComponentLink3URL: http://ww1.microchip.com/downloads/en/PackagingSpec/00049AW.pdf
footprint SOT-143-RC4_N (SOT143, 4-Leads, Body 2.9x1.3mm, Pitch 1.9mm, Lead Span 2.4mm, IPC Medium Density)
footprint SOT-143-RC4_L (SOT143, 4-Leads, Body 2.9x1.3mm, Pitch 1.9mm, Lead Span 2.4mm, IPC High Density)
footprint SOT-143-RC4_M (SOT143, 4-Leads, Body 2.9x1.3mm, Pitch 1.9mm, Lead Span 2.4mm, IPC Low Density)
pins: 1 VSS (power), 2 RST (out), 3 ~{MR} (in), 4 VDD (power)

## TC1271AMAVCTTR
designator U?
Voltage Supervisor with Manual Reset Input, 5-Pin SOT-23, VTRIP:4.25V (min.) / 4.38V (typ.) / 4.50V (max.), Tape and Reel; Published: 29-Jan-2009; DatasheetVersion: revB, Jun-2007; PackageVersion: revAW, Oct-2008; PackageReference: SOT-23-CT5; Publisher: Altium Limited; PackageDescription: 5-Lead Plastic Small Outline Transistor (CT) [SOT-23]; Code_IPC: SOT23-5; ComponentLink1Description: Manufacturer Link; ComponentLink1URL: http://www.microchip.com; ComponentLink2Description: Datasheet; ComponentLink2URL: http://ww1.microchip.com/downloads/en/DeviceDoc/22035b.pdf; ComponentLink3Description: Packaging Specification; ComponentLink3URL: http://ww1.microchip.com/downloads/en/PackagingSpec/00049AW.pdf
footprint SOT-23-CT5_N (SOT23, 5-Leads, Body 2.9x1.6mm, Pitch 0.95mm, Lead Span 2.7mm, IPC Medium Density)
footprint SOT-23-CT5_L (SOT23, 5-Leads, Body 2.9x1.6mm, Pitch 0.95mm, Lead Span 2.7mm, IPC High Density)
footprint SOT-23-CT5_M (SOT23, 5-Leads, Body 2.9x1.6mm, Pitch 0.95mm, Lead Span 2.7mm, IPC Low Density)
pins: 1 VSS (power), 2 RST (out), 3 ~{MR} (in), 4 VDD (power), 5 NC

## TC1271AMAVRCTR
designator U?
Voltage Supervisor with Manual Reset Input, 4-Pin SOT-143, VTRIP:4.25V (min.) / 4.38V (typ.) / 4.50V (max.), Tape and Reel; Published: 29-Jan-2009; DatasheetVersion: revB, Jun-2007; PackageVersion: revAW, Oct-2008; PackageReference: SOT-143-RC4; Publisher: Altium Limited; PackageDescription: 4-Lead Plastic Small Outline Transistor (RC) [SOT-143]; Code_IPC: SOT143; ComponentLink1Description: Manufacturer Link; ComponentLink1URL: http://www.microchip.com; ComponentLink2Description: Datasheet; ComponentLink2URL: http://ww1.microchip.com/downloads/en/DeviceDoc/22035b.pdf; ComponentLink3Description: Packaging Specification; ComponentLink3URL: http://ww1.microchip.com/downloads/en/PackagingSpec/00049AW.pdf
footprint SOT-143-RC4_N (SOT143, 4-Leads, Body 2.9x1.3mm, Pitch 1.9mm, Lead Span 2.4mm, IPC Medium Density)
footprint SOT-143-RC4_L (SOT143, 4-Leads, Body 2.9x1.3mm, Pitch 1.9mm, Lead Span 2.4mm, IPC High Density)
footprint SOT-143-RC4_M (SOT143, 4-Leads, Body 2.9x1.3mm, Pitch 1.9mm, Lead Span 2.4mm, IPC Low Density)
pins: 1 VSS (power), 2 RST (out), 3 ~{MR} (in), 4 VDD (power)

## TC1271AMBVCTTR
designator U?
Voltage Supervisor with Manual Reset Input, 5-Pin SOT-23, VTRIP:4.25V (min.) / 4.38V (typ.) / 4.50V (max.), Tape and Reel; Published: 29-Jan-2009; DatasheetVersion: revB, Jun-2007; PackageVersion: revAW, Oct-2008; PackageReference: SOT-23-CT5; Publisher: Altium Limited; PackageDescription: 5-Lead Plastic Small Outline Transistor (CT) [SOT-23]; Code_IPC: SOT23-5; ComponentLink1Description: Manufacturer Link; ComponentLink1URL: http://www.microchip.com; ComponentLink2Description: Datasheet; ComponentLink2URL: http://ww1.microchip.com/downloads/en/DeviceDoc/22035b.pdf; ComponentLink3Description: Packaging Specification; ComponentLink3URL: http://ww1.microchip.com/downloads/en/PackagingSpec/00049AW.pdf
footprint SOT-23-CT5_N (SOT23, 5-Leads, Body 2.9x1.6mm, Pitch 0.95mm, Lead Span 2.7mm, IPC Medium Density)
footprint SOT-23-CT5_L (SOT23, 5-Leads, Body 2.9x1.6mm, Pitch 0.95mm, Lead Span 2.7mm, IPC High Density)
footprint SOT-23-CT5_M (SOT23, 5-Leads, Body 2.9x1.6mm, Pitch 0.95mm, Lead Span 2.7mm, IPC Low Density)
pins: 1 VSS (power), 2 RST (out), 3 ~{MR} (in), 4 VDD (power), 5 NC

## TC1271AMBVRCTR
designator U?
Voltage Supervisor with Manual Reset Input, 4-Pin SOT-143, VTRIP:4.25V (min.) / 4.38V (typ.) / 4.50V (max.), Tape and Reel; Published: 29-Jan-2009; DatasheetVersion: revB, Jun-2007; PackageVersion: revAW, Oct-2008; PackageReference: SOT-143-RC4; Publisher: Altium Limited; PackageDescription: 4-Lead Plastic Small Outline Transistor (RC) [SOT-143]; Code_IPC: SOT143; ComponentLink1Description: Manufacturer Link; ComponentLink1URL: http://www.microchip.com; ComponentLink2Description: Datasheet; ComponentLink2URL: http://ww1.microchip.com/downloads/en/DeviceDoc/22035b.pdf; ComponentLink3Description: Packaging Specification; ComponentLink3URL: http://ww1.microchip.com/downloads/en/PackagingSpec/00049AW.pdf
footprint SOT-143-RC4_N (SOT143, 4-Leads, Body 2.9x1.3mm, Pitch 1.9mm, Lead Span 2.4mm, IPC Medium Density)
footprint SOT-143-RC4_L (SOT143, 4-Leads, Body 2.9x1.3mm, Pitch 1.9mm, Lead Span 2.4mm, IPC High Density)
footprint SOT-143-RC4_M (SOT143, 4-Leads, Body 2.9x1.3mm, Pitch 1.9mm, Lead Span 2.4mm, IPC Low Density)
pins: 1 VSS (power), 2 RST (out), 3 ~{MR} (in), 4 VDD (power)

## TC1271AMVCTTR
designator U?
Voltage Supervisor with Manual Reset Input, 5-Pin SOT-23, VTRIP:4.25V (min.) / 4.38V (typ.) / 4.50V (max.), Tape and Reel; Published: 29-Jan-2009; DatasheetVersion: revB, Jun-2007; PackageVersion: revAW, Oct-2008; PackageReference: SOT-23-CT5; Publisher: Altium Limited; PackageDescription: 5-Lead Plastic Small Outline Transistor (CT) [SOT-23]; Code_IPC: SOT23-5; ComponentLink1Description: Manufacturer Link; ComponentLink1URL: http://www.microchip.com; ComponentLink2Description: Datasheet; ComponentLink2URL: http://ww1.microchip.com/downloads/en/DeviceDoc/22035b.pdf; ComponentLink3Description: Packaging Specification; ComponentLink3URL: http://ww1.microchip.com/downloads/en/PackagingSpec/00049AW.pdf
footprint SOT-23-CT5_N (SOT23, 5-Leads, Body 2.9x1.6mm, Pitch 0.95mm, Lead Span 2.7mm, IPC Medium Density)
footprint SOT-23-CT5_L (SOT23, 5-Leads, Body 2.9x1.6mm, Pitch 0.95mm, Lead Span 2.7mm, IPC High Density)
footprint SOT-23-CT5_M (SOT23, 5-Leads, Body 2.9x1.6mm, Pitch 0.95mm, Lead Span 2.7mm, IPC Low Density)
pins: 1 VSS (power), 2 RST (out), 3 ~{MR} (in), 4 VDD (power), 5 NC

## TC1271AMVRCTR
designator U?
Voltage Supervisor with Manual Reset Input, 4-Pin SOT-143, VTRIP:4.25V (min.) / 4.38V (typ.) / 4.50V (max.), Tape and Reel; Published: 29-Jan-2009; DatasheetVersion: revB, Jun-2007; PackageVersion: revAW, Oct-2008; PackageReference: SOT-143-RC4; Publisher: Altium Limited; PackageDescription: 4-Lead Plastic Small Outline Transistor (RC) [SOT-143]; Code_IPC: SOT143; ComponentLink1Description: Manufacturer Link; ComponentLink1URL: http://www.microchip.com; ComponentLink2Description: Datasheet; ComponentLink2URL: http://ww1.microchip.com/downloads/en/DeviceDoc/22035b.pdf; ComponentLink3Description: Packaging Specification; ComponentLink3URL: http://ww1.microchip.com/downloads/en/PackagingSpec/00049AW.pdf
footprint SOT-143-RC4_N (SOT143, 4-Leads, Body 2.9x1.3mm, Pitch 1.9mm, Lead Span 2.4mm, IPC Medium Density)
footprint SOT-143-RC4_L (SOT143, 4-Leads, Body 2.9x1.3mm, Pitch 1.9mm, Lead Span 2.4mm, IPC High Density)
footprint SOT-143-RC4_M (SOT143, 4-Leads, Body 2.9x1.3mm, Pitch 1.9mm, Lead Span 2.4mm, IPC Low Density)
pins: 1 VSS (power), 2 RST (out), 3 ~{MR} (in), 4 VDD (power)

## TC1271ARAVCTTR
designator U?
Voltage Supervisor with Manual Reset Input, 5-Pin SOT-23, VTRIP:2.55V (min.) / 2.63V (typ.) / 2.70V (max.), Tape and Reel; Published: 29-Jan-2009; DatasheetVersion: revB, Jun-2007; PackageVersion: revAW, Oct-2008; PackageReference: SOT-23-CT5; Publisher: Altium Limited; PackageDescription: 5-Lead Plastic Small Outline Transistor (CT) [SOT-23]; Code_IPC: SOT23-5; ComponentLink1Description: Manufacturer Link; ComponentLink1URL: http://www.microchip.com; ComponentLink2Description: Datasheet; ComponentLink2URL: http://ww1.microchip.com/downloads/en/DeviceDoc/22035b.pdf; ComponentLink3Description: Packaging Specification; ComponentLink3URL: http://ww1.microchip.com/downloads/en/PackagingSpec/00049AW.pdf
footprint SOT-23-CT5_N (SOT23, 5-Leads, Body 2.9x1.6mm, Pitch 0.95mm, Lead Span 2.7mm, IPC Medium Density)
footprint SOT-23-CT5_L (SOT23, 5-Leads, Body 2.9x1.6mm, Pitch 0.95mm, Lead Span 2.7mm, IPC High Density)
footprint SOT-23-CT5_M (SOT23, 5-Leads, Body 2.9x1.6mm, Pitch 0.95mm, Lead Span 2.7mm, IPC Low Density)
pins: 1 VSS (power), 2 RST (out), 3 ~{MR} (in), 4 VDD (power), 5 NC

## TC1271ARAVRCTR
designator U?
Voltage Supervisor with Manual Reset Input, 4-Pin SOT-143, VTRIP:2.55V (min.) / 2.63V (typ.) / 2.70V (max.), Tape and Reel; Published: 29-Jan-2009; DatasheetVersion: revB, Jun-2007; PackageVersion: revAW, Oct-2008; PackageReference: SOT-143-RC4; Publisher: Altium Limited; PackageDescription: 4-Lead Plastic Small Outline Transistor (RC) [SOT-143]; Code_IPC: SOT143; ComponentLink1Description: Manufacturer Link; ComponentLink1URL: http://www.microchip.com; ComponentLink2Description: Datasheet; ComponentLink2URL: http://ww1.microchip.com/downloads/en/DeviceDoc/22035b.pdf; ComponentLink3Description: Packaging Specification; ComponentLink3URL: http://ww1.microchip.com/downloads/en/PackagingSpec/00049AW.pdf
footprint SOT-143-RC4_N (SOT143, 4-Leads, Body 2.9x1.3mm, Pitch 1.9mm, Lead Span 2.4mm, IPC Medium Density)
footprint SOT-143-RC4_L (SOT143, 4-Leads, Body 2.9x1.3mm, Pitch 1.9mm, Lead Span 2.4mm, IPC High Density)
footprint SOT-143-RC4_M (SOT143, 4-Leads, Body 2.9x1.3mm, Pitch 1.9mm, Lead Span 2.4mm, IPC Low Density)
pins: 1 VSS (power), 2 RST (out), 3 ~{MR} (in), 4 VDD (power)

## TC1271ARBVCTTR
designator U?
Voltage Supervisor with Manual Reset Input, 5-Pin SOT-23, VTRIP:2.55V (min.) / 2.63V (typ.) / 2.70V (max.), Tape and Reel; Published: 29-Jan-2009; DatasheetVersion: revB, Jun-2007; PackageVersion: revAW, Oct-2008; PackageReference: SOT-23-CT5; Publisher: Altium Limited; PackageDescription: 5-Lead Plastic Small Outline Transistor (CT) [SOT-23]; Code_IPC: SOT23-5; ComponentLink1Description: Manufacturer Link; ComponentLink1URL: http://www.microchip.com; ComponentLink2Description: Datasheet; ComponentLink2URL: http://ww1.microchip.com/downloads/en/DeviceDoc/22035b.pdf; ComponentLink3Description: Packaging Specification; ComponentLink3URL: http://ww1.microchip.com/downloads/en/PackagingSpec/00049AW.pdf
footprint SOT-23-CT5_N (SOT23, 5-Leads, Body 2.9x1.6mm, Pitch 0.95mm, Lead Span 2.7mm, IPC Medium Density)
footprint SOT-23-CT5_L (SOT23, 5-Leads, Body 2.9x1.6mm, Pitch 0.95mm, Lead Span 2.7mm, IPC High Density)
footprint SOT-23-CT5_M (SOT23, 5-Leads, Body 2.9x1.6mm, Pitch 0.95mm, Lead Span 2.7mm, IPC Low Density)
pins: 1 VSS (power), 2 RST (out), 3 ~{MR} (in), 4 VDD (power), 5 NC

## TC1271ARBVRCTR
designator U?
Voltage Supervisor with Manual Reset Input, 4-Pin SOT-143, VTRIP:2.55V (min.) / 2.63V (typ.) / 2.70V (max.), Tape and Reel; Published: 29-Jan-2009; DatasheetVersion: revB, Jun-2007; PackageVersion: revAW, Oct-2008; PackageReference: SOT-143-RC4; Publisher: Altium Limited; PackageDescription: 4-Lead Plastic Small Outline Transistor (RC) [SOT-143]; Code_IPC: SOT143; ComponentLink1Description: Manufacturer Link; ComponentLink1URL: http://www.microchip.com; ComponentLink2Description: Datasheet; ComponentLink2URL: http://ww1.microchip.com/downloads/en/DeviceDoc/22035b.pdf; ComponentLink3Description: Packaging Specification; ComponentLink3URL: http://ww1.microchip.com/downloads/en/PackagingSpec/00049AW.pdf
footprint SOT-143-RC4_N (SOT143, 4-Leads, Body 2.9x1.3mm, Pitch 1.9mm, Lead Span 2.4mm, IPC Medium Density)
footprint SOT-143-RC4_L (SOT143, 4-Leads, Body 2.9x1.3mm, Pitch 1.9mm, Lead Span 2.4mm, IPC High Density)
footprint SOT-143-RC4_M (SOT143, 4-Leads, Body 2.9x1.3mm, Pitch 1.9mm, Lead Span 2.4mm, IPC Low Density)
pins: 1 VSS (power), 2 RST (out), 3 ~{MR} (in), 4 VDD (power)

## TC1271ARVCTTR
designator U?
Voltage Supervisor with Manual Reset Input, 5-Pin SOT-23, VTRIP:2.55V (min.) / 2.63V (typ.) / 2.70V (max.), Tape and Reel; Published: 29-Jan-2009; DatasheetVersion: revB, Jun-2007; PackageVersion: revAW, Oct-2008; PackageReference: SOT-23-CT5; Publisher: Altium Limited; PackageDescription: 5-Lead Plastic Small Outline Transistor (CT) [SOT-23]; Code_IPC: SOT23-5; ComponentLink1Description: Manufacturer Link; ComponentLink1URL: http://www.microchip.com; ComponentLink2Description: Datasheet; ComponentLink2URL: http://ww1.microchip.com/downloads/en/DeviceDoc/22035b.pdf; ComponentLink3Description: Packaging Specification; ComponentLink3URL: http://ww1.microchip.com/downloads/en/PackagingSpec/00049AW.pdf
footprint SOT-23-CT5_N (SOT23, 5-Leads, Body 2.9x1.6mm, Pitch 0.95mm, Lead Span 2.7mm, IPC Medium Density)
footprint SOT-23-CT5_L (SOT23, 5-Leads, Body 2.9x1.6mm, Pitch 0.95mm, Lead Span 2.7mm, IPC High Density)
footprint SOT-23-CT5_M (SOT23, 5-Leads, Body 2.9x1.6mm, Pitch 0.95mm, Lead Span 2.7mm, IPC Low Density)
pins: 1 VSS (power), 2 RST (out), 3 ~{MR} (in), 4 VDD (power), 5 NC

## TC1271ARVRCTR
designator U?
Voltage Supervisor with Manual Reset Input, 4-Pin SOT-143, VTRIP:2.55V (min.) / 2.63V (typ.) / 2.70V (max.), Tape and Reel; Published: 29-Jan-2009; DatasheetVersion: revB, Jun-2007; PackageVersion: revAW, Oct-2008; PackageReference: SOT-143-RC4; Publisher: Altium Limited; PackageDescription: 4-Lead Plastic Small Outline Transistor (RC) [SOT-143]; Code_IPC: SOT143; ComponentLink1Description: Manufacturer Link; ComponentLink1URL: http://www.microchip.com; ComponentLink2Description: Datasheet; ComponentLink2URL: http://ww1.microchip.com/downloads/en/DeviceDoc/22035b.pdf; ComponentLink3Description: Packaging Specification; ComponentLink3URL: http://ww1.microchip.com/downloads/en/PackagingSpec/00049AW.pdf
footprint SOT-143-RC4_N (SOT143, 4-Leads, Body 2.9x1.3mm, Pitch 1.9mm, Lead Span 2.4mm, IPC Medium Density)
footprint SOT-143-RC4_L (SOT143, 4-Leads, Body 2.9x1.3mm, Pitch 1.9mm, Lead Span 2.4mm, IPC High Density)
footprint SOT-143-RC4_M (SOT143, 4-Leads, Body 2.9x1.3mm, Pitch 1.9mm, Lead Span 2.4mm, IPC Low Density)
pins: 1 VSS (power), 2 RST (out), 3 ~{MR} (in), 4 VDD (power)

## TC1271ASAVCTTR
designator U?
Voltage Supervisor with Manual Reset Input, 5-Pin SOT-23, VTRIP:2.85V (min.) / 2.93V (typ.) / 3.00V (max.), Tape and Reel; Published: 29-Jan-2009; DatasheetVersion: revB, Jun-2007; PackageVersion: revAW, Oct-2008; PackageReference: SOT-23-CT5; Publisher: Altium Limited; PackageDescription: 5-Lead Plastic Small Outline Transistor (CT) [SOT-23]; Code_IPC: SOT23-5; ComponentLink1Description: Manufacturer Link; ComponentLink1URL: http://www.microchip.com; ComponentLink2Description: Datasheet; ComponentLink2URL: http://ww1.microchip.com/downloads/en/DeviceDoc/22035b.pdf; ComponentLink3Description: Packaging Specification; ComponentLink3URL: http://ww1.microchip.com/downloads/en/PackagingSpec/00049AW.pdf
footprint SOT-23-CT5_N (SOT23, 5-Leads, Body 2.9x1.6mm, Pitch 0.95mm, Lead Span 2.7mm, IPC Medium Density)
footprint SOT-23-CT5_L (SOT23, 5-Leads, Body 2.9x1.6mm, Pitch 0.95mm, Lead Span 2.7mm, IPC High Density)
footprint SOT-23-CT5_M (SOT23, 5-Leads, Body 2.9x1.6mm, Pitch 0.95mm, Lead Span 2.7mm, IPC Low Density)
pins: 1 VSS (power), 2 RST (out), 3 ~{MR} (in), 4 VDD (power), 5 NC

## TC1271ASAVRCTR
designator U?
Voltage Supervisor with Manual Reset Input, 4-Pin SOT-143, VTRIP:2.85V (min.) / 2.93V (typ.) / 3.00V (max.), Tape and Reel; Published: 29-Jan-2009; DatasheetVersion: revB, Jun-2007; PackageVersion: revAW, Oct-2008; PackageReference: SOT-143-RC4; Publisher: Altium Limited; PackageDescription: 4-Lead Plastic Small Outline Transistor (RC) [SOT-143]; Code_IPC: SOT143; ComponentLink1Description: Manufacturer Link; ComponentLink1URL: http://www.microchip.com; ComponentLink2Description: Datasheet; ComponentLink2URL: http://ww1.microchip.com/downloads/en/DeviceDoc/22035b.pdf; ComponentLink3Description: Packaging Specification; ComponentLink3URL: http://ww1.microchip.com/downloads/en/PackagingSpec/00049AW.pdf
footprint SOT-143-RC4_N (SOT143, 4-Leads, Body 2.9x1.3mm, Pitch 1.9mm, Lead Span 2.4mm, IPC Medium Density)
footprint SOT-143-RC4_L (SOT143, 4-Leads, Body 2.9x1.3mm, Pitch 1.9mm, Lead Span 2.4mm, IPC High Density)
footprint SOT-143-RC4_M (SOT143, 4-Leads, Body 2.9x1.3mm, Pitch 1.9mm, Lead Span 2.4mm, IPC Low Density)
pins: 1 VSS (power), 2 RST (out), 3 ~{MR} (in), 4 VDD (power)